# EAGLE library part POWER_JACK (library atari)
Power Jack
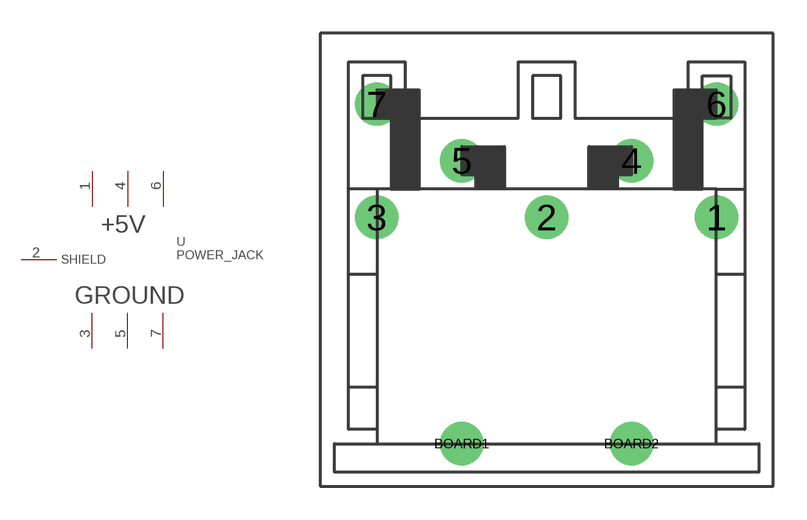
[diagram p19: symbol with the pads of POWER_JACK; footprint POWER_JACK]

Designator prefix -

## POWER_JACK  [POWER_JACK]
1  +5V  pwr
2  SHIELD  pas
3  GND1  pwr
4  +5V_2  pwr
5  GND2  pwr
6  +5V_3  pwr
7  GND3  pwr

## Footprint POWER_JACK (pad centres in mm)
Power Jack
drill 1.3 round: 1 7.62,0; 2 0,0; 3 -7.62,0; 4 3.81,2.54; 5 -3.81,2.54; 6 7.62,5.08; 7 -7.62,5.08; BOARD1 -3.81,-10.16; BOARD2 3.81,-10.16